# EAGLE library part HF115F/012-1HS3AF(257) (library HF115F-1H-3_HNG)
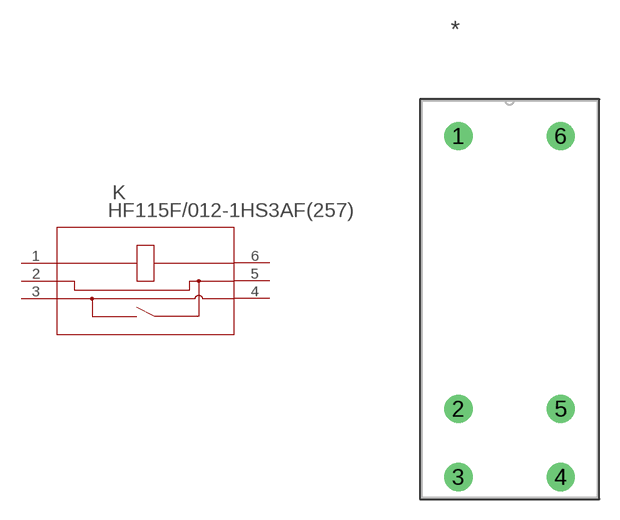
[diagram p0: symbol with the pads of HF115F-1H-3_HNG; footprint HF115F-1H-3_HNG]

Designator prefix K

## HF115F/012-1HS3AF(257)HF115F-1H-3_HNG (Copyright: Copyright (C) 2022 Ultra Librarian. All rights reserved.; Manufacturer_Part_Number: HF115F/012-1HS3AF(257); Mfr_Name: Hongfa)  [HF115F-1H-3_HNG]
1  1  pas
2  2  pas
3  3  pas
4  4  pas
5  5  pas
6  6  pas

## Footprint HF115F-1H-3_HNG (pad centres in mm)
drill 1.397 pad 1.905 round: 1 0,0; 2 0,-20.16; 3 0,-25.2; 4 7.56,-25.2; 5 7.56,-20.16; 6 7.56,0